# Altium footprint library QFN-64(8.0X8.0).PcbLib: 1 footprints
Each footprint in its own frame and in the unit in brackets; x right, y up, seen from the top. Pads: shape width x height; smd on the part's side, far side on the other; paste and mask are expansions set on the pad; w line width, h text height; cw(c..) or ccw(c..) is an arc to the next point about the centre after c.
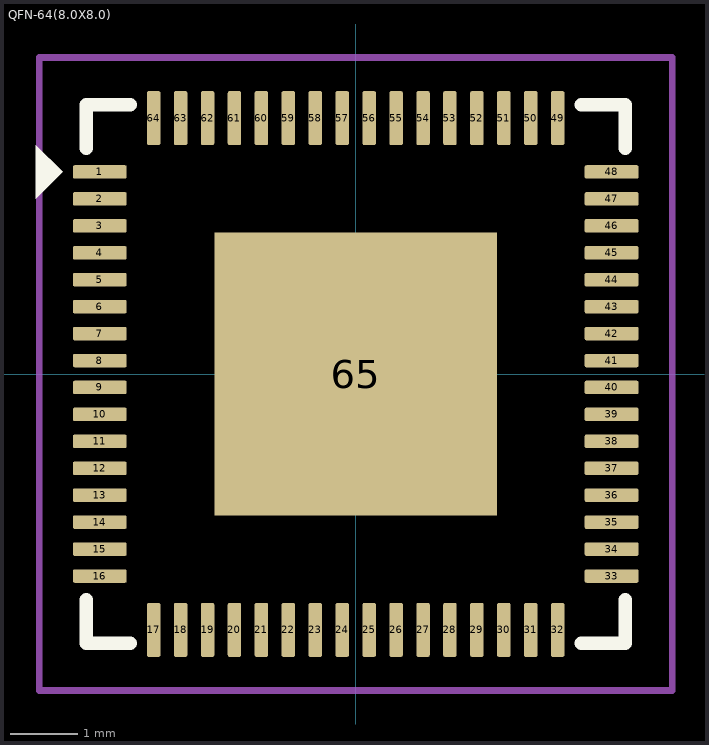
[diagram p0: the footprint, top view; thin cyan lines are the x and y axes]

## QFN-64(8.0X8.0) [mm]
pads (65):
  rrect25% 0.8x0.2 smd: 1(-3.8,3) 2(-3.8,2.6) 3(-3.8,2.2) 4(-3.8,1.8) 5(-3.8,1.4) 6(-3.8,1) 7(-3.8,0.6) 8(-3.8,0.2) 9(-3.8,-0.2) 10(-3.8,-0.6) 11(-3.8,-1) 12(-3.8,-1.4) 13(-3.8,-1.8) 14(-3.8,-2.2) 15(-3.8,-2.6) 16(-3.8,-3) 33(3.8,-3) 34(3.8,-2.6) 35(3.8,-2.2) 36(3.8,-1.8) 37(3.8,-1.4) 38(3.8,-1) 39(3.8,-0.6) 40(3.8,-0.2) 41(3.8,0.2) 42(3.8,0.6) 43(3.8,1) 44(3.8,1.4) 45(3.8,1.8) 46(3.8,2.2) 47(3.8,2.6) 48(3.8,3)
  rrect25% 0.2x0.8 smd: 17(-3,-3.8) 18(-2.6,-3.8) 19(-2.2,-3.8) 20(-1.8,-3.8) 21(-1.4,-3.8) 22(-1,-3.8) 23(-0.6,-3.8) 24(-0.2,-3.8) 25(0.2,-3.8) 26(0.6,-3.8) 27(1,-3.8) 28(1.4,-3.8) 29(1.8,-3.8) 30(2.2,-3.8) 31(2.6,-3.8) 32(3,-3.8) 49(3,3.8) 50(2.6,3.8) 51(2.2,3.8) 52(1.8,3.8) 53(1.4,3.8) 54(1,3.8) 55(0.6,3.8) 56(0.2,3.8) 57(-0.2,3.8) 58(-0.6,3.8) 59(-1,3.8) 60(-1.4,3.8) 61(-1.8,3.8) 62(-2.2,3.8) 63(-2.6,3.8) 64(-3,3.8)
  rect 4.2x4.2 smd paste-3: 65(0,0)
Top Overlay:
  region: -4.75,2.6 -4.75,3.4 -4.35,3
  lines w0.2: -4,-3.35 -4,-4 -3.35,-4 ; -4,3.35 -4,4 -3.35,4 ; 3.35,-4 4,-4 4,-3.35 ; 3.35,4 4,4 4,3.35
Top Paste:
  region: 0.5,-0.5 -0.5,-0.5 -0.5,0.5 0.5,0.5
  region: 1.8,-1.8 0.8,-1.8 0.8,-0.8 1.8,-0.8
  region: 1.8,1.8 1.8,0.8 0.8,0.8 0.8,1.8
  region: -1.8,1.8 -0.8,1.8 -0.8,0.8 -1.8,0.8
  region: -1.8,-1.8 -1.8,-0.8 -0.8,-0.8 -0.8,-1.8
  region: 0.5,-1.8 -0.5,-1.8 -0.5,-0.8 0.5,-0.8
  region: -0.8,0.5 -0.8,-0.5 -1.8,-0.5 -1.8,0.5
  region: 0.8,-0.5 0.8,0.5 1.8,0.5 1.8,-0.5
  region: 0.5,0.8 -0.5,0.8 -0.5,1.8 0.5,1.8
Top Courtyard:
  lines w0.1: -4.7,-4.7 -4.7,4.7 4.7,4.7 4.7,-4.7 -4.7,-4.7
3D body "step_temp.STEP": height 0.9, standoff 0, extent -4,-4 4,4